# Altium schematic symbol library TMP235A2DCKR.SchLib: 1 symbol
Pins are listed as number, name and electrical type; pins without a type are passive.

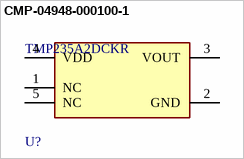
[diagram p0: symbol CMP-04948-000100-1]

## CMP-04948-000100-1
designator U?, comment TMP235A2DCKR
SENSOR ANALOG -40C-150C SC70-5; Output Type: Analog Voltage; RoHS Compliant: Yes; Mount: Surface Mount; Max Operating Temperature: 150°C; Packaging: Tape and Reel; Min Operating Temperature: -40°C; Interface: Analog
footprint FP-DCK0005A-IPC_B
footprint FP-DCK0005A-IPC_A
footprint FP-DCK0005A-IPC_C
footprint FP-DCK0005A-MFG
pins: 1 NC, 2 GND (power), 3 VOUT, 4 VDD (power), 5 NC